# Altium footprint library Conn_Amphenol_10118194-0001LF_eec_0.PcbLib: 1 footprints
Each footprint in its own frame and in the unit in brackets; x right, y up, seen from the top. Pads: shape width x height; smd on the part's side, far side on the other; paste and mask are expansions set on the pad; w line width, h text height; cw(c..) or ccw(c..) is an arc to the next point about the centre after c.
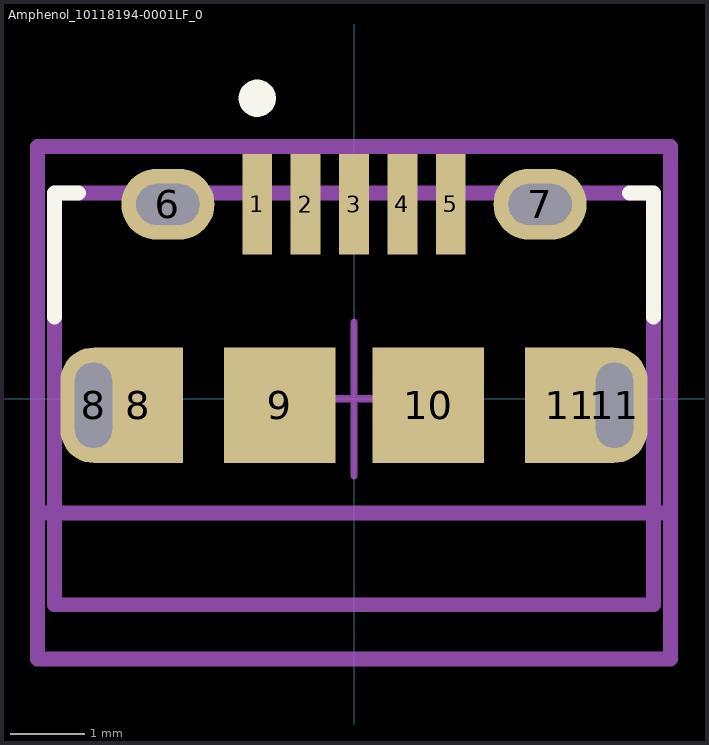
[diagram p0: the footprint, top view; thin cyan lines are the x and y axes]

## Amphenol_10118194-0001LF_0 [mm]
pads (13):
  rect 0.4x1.35 smd paste+0 mask+0: 1(-1.3,2.615) 2(-0.65,2.615) 3(0,2.615) 4(0.65,2.615) 5(1.3,2.615)
  rrect100% 1.25x0.95 hole 0.55 slot 0.85 at 0 deg paste-1000 mask+0: 6(-2.5,2.615) 7(2.5,2.615)
  rrect100% 0.89x1.55 hole 1.15 slot 0.5 at 0 deg paste-1000 mask+0: 8(-3.5,-0.085) 11(3.5,-0.085)
  rect 1.2x1.55 smd paste+0 mask+0: 8(-2.9,-0.085) 11(2.9,-0.085)
  rect 1.5x1.55 smd paste+0 mask+0: 9(-1,-0.085) 10(1,-0.085)
Top Overlay:
  circle w0.25: c-1.3,4.04 r0.125
  lines w0.2: -4.025,1.1 -4.025,2.765 -3.7,2.765 ; 3.7,2.765 4.025,2.765 4.025,1.1
Mechanical 10:
  lines w0.2: -4.25,-3.495 4.25,-3.495 4.25,3.39 -4.25,3.39 -4.25,-3.495
  text ".Designator" at 0,-0.052 h1
Mechanical 12:
  lines w0.2: -4.25,-1.535 4.25,-1.535 ; -4.025,-2.765 4.025,-2.765 4.025,2.765 -4.025,2.765 -4.025,-2.765
Mechanical 15:
  lines w0.1: -1.033,0 1.033,0 ; 0,-1.033 0,1.033
  lines w0.2: -4.25,-3.495 4.25,-3.495 4.25,3.39 -4.25,3.39 -4.25,-3.495
3D body "Conn_Amphenol_10118194-0001LF_eec.STEP": height 0.25, standoff 0, extent -4.25,-3.495 4.25,3.39